# Altium integrated library TC4427.IntLib: 1 symbol
Pins are listed as number, name and electrical type; pins without a type are passive.

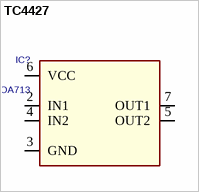
[diagram p0: symbol TC4427]

## TC4427
designator IC?, comment TC4427COA713
BUY_LINK: http://www.digikey.com/product-detail/en/TC4427COA713/TC4427COA713CT-ND/418666; PDF: http://www.microchip.com/mymicrochip/filehandler.aspx?ddocname=en011741; ID: TC4427COA713; PRICE: 1.30000
footprint SO8
pins: 2 IN1, 3 GND, 4 IN2, 5 OUT2, 6 VCC, 7 OUT1